# EAGLE library part FSA266 (library OpenMotics)
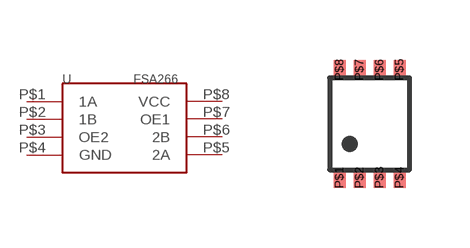
[diagram p41: symbol with the pads of US8; footprint US8]

Designator prefix U

## FSA266  [US8]
P$1  1A
P$2  1B
P$3  OE2
P$4  GND
P$5  2A
P$6  2B
P$7  OE1
P$8  VCC

## Footprint US8 (pad centres in mm)
smd 0.3 x 0.5: P$1 -0.75,-1.35; P$2 -0.25,-1.35; P$3 0.25,-1.35; P$4 0.75,-1.35; P$5 0.75,1.35; P$6 0.25,1.35; P$7 -0.25,1.35; P$8 -0.75,1.35